# Altium footprint library V23047A1021A511.PcbLib: 1 footprints
Each footprint in its own frame and in the unit in brackets; x right, y up, seen from the top. Pads: shape width x height; smd on the part's side, far side on the other; paste and mask are expansions set on the pad; w line width, h text height; cw(c..) or ccw(c..) is an arc to the next point about the centre after c.
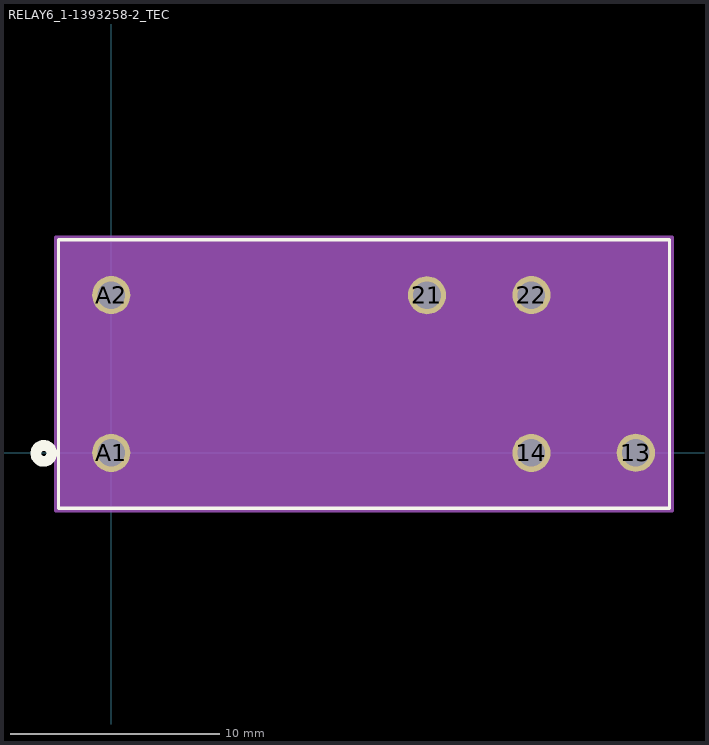
[diagram p0: the footprint, top view; thin cyan lines are the x and y axes]

## RELAY6_1-1393258-2_TEC [mil]
pads (6):
  round 72 hole 52 paste-36 mask+0: 13(988.98,0.28) 14(792.13,0) 21(595.28,297.36) 22(792.13,297.64) A1(0,0) A2(0,297.64)
Top Overlay:
  circle w20: c-127.21,-0.82 r15
  lines w6: -99.49,-104.18 1052.51,-104.18 1052.51,401.82 -99.49,401.82 -99.49,-104.18
  text ".Designator" at 339.01,123.82 h50
Bottom Overlay:
  circle w20: c-127.21,-0.82 r15
Mechanical 13:
  circle w20: c-1.21,-78.82 r15
  lines w1: -94.49,-99.18 1047.51,-99.18 1047.51,396.82 -94.49,396.82 -94.49,-99.18
  text ".Designator" at 339.01,123.82 h50
Mechanical 15:
  region: 1057.51,406.82 -104.49,406.82 -104.49,-109.18 1057.51,-109.18
  region: 1047.51,396.82 -94.49,396.82 -94.49,-99.18 1047.51,-99.18
  lines w6: -104.49,-109.18 -104.49,406.82 1057.51,406.82 1057.51,-109.18 -104.49,-109.18